# Altium schematic symbol library Diode_Vishay_Semiconductor_1N5408-E3-54_eec.SchLib: 1 symbol
Pins are listed as number, name and electrical type; pins without a type are passive.

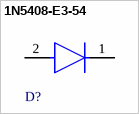
[diagram p0: symbol 1N5408-E3-54]

## 1N5408-E3-54
designator D?  (value not drawn)
footprint Vishay_Semiconductor_0_Recommended_Land_Pattern
pins: 1 C, 2 A